# Altium schematic symbol library SPDIF.SchLib: 1 symbol
Pins are listed as number, name and electrical type; pins without a type are passive.

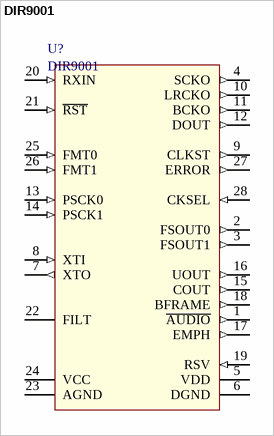
[diagram p0: symbol DIR9001]

## DIR9001
designator U?
96-kHz, 24-Bit Digital Audio Interface Receiver; Value: DIR9001
footprint TSSOP28 (Footprint not found)
pins: 1 ~{AUDIO} (out), 2 FSOUT0 (out), 3 FSOUT1 (out), 4 SCKO (out), 5 VDD (power), 6 DGND (power), 7 XTO (out), 8 XTI (in), 9 CLKST (out), 10 LRCKO (out), 11 BCKO (out), 12 DOUT (out), 13 PSCK0 (in), 14 PSCK1 (in), 15 COUT (out), 16 UOUT (out), 17 EMPH (out), 18 BFRAME (out), 19 RSV (in), 20 RXIN (in), 21 ~{RST} (in), 22 FILT, 23 AGND (power), 24 VCC (power), 25 FMT0 (in), 26 FMT1 (in), 27 ERROR (out), 28 CKSEL (in)